# Altium footprint library shared_lib.PcbLib: 37 footprints (part 2 of 3)
Each footprint in its own frame and in the unit in brackets; x right, y up, seen from the top. Pads: shape width x height; smd on the part's side, far side on the other; paste and mask are expansions set on the pad; w line width, h text height; cw(c..) or ccw(c..) is an arc to the next point about the centre after c.
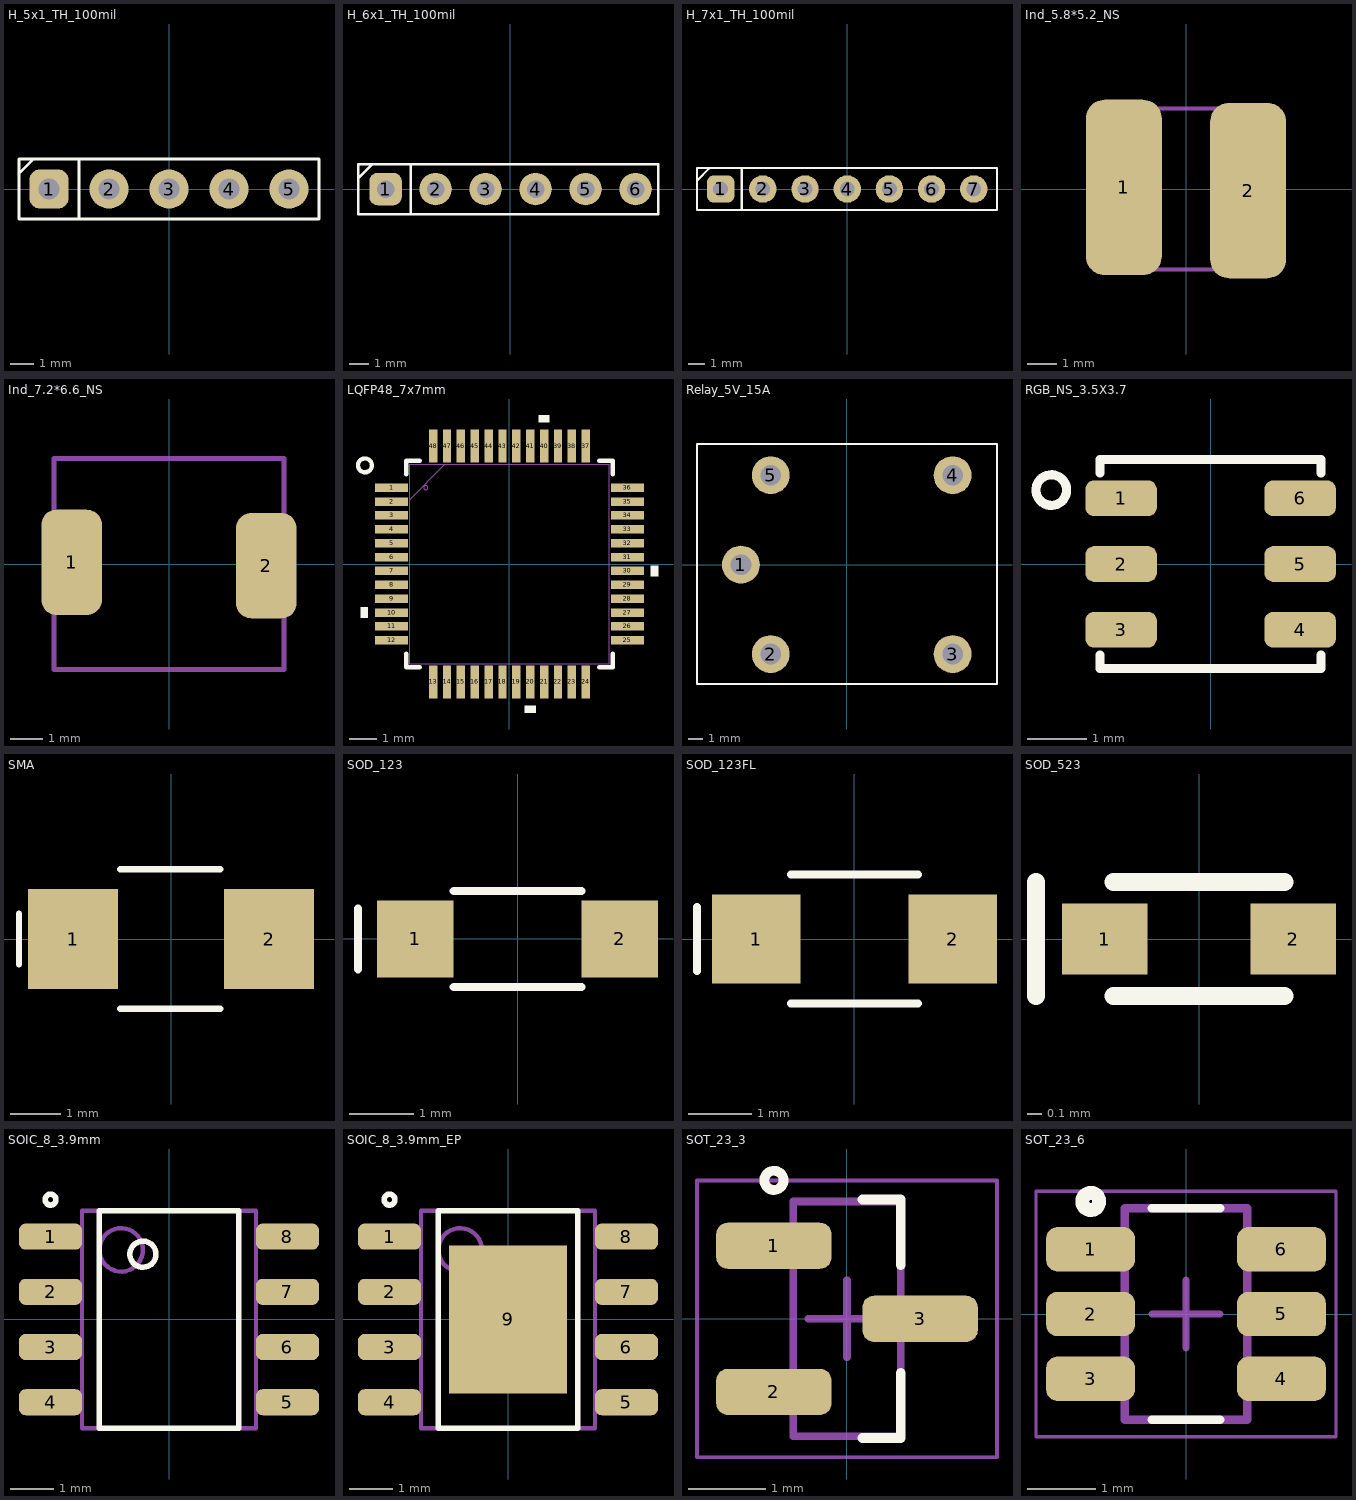
[diagram p1: the footprints below, top view; thin cyan lines are the x and y axes]

## H_5x1_TH_100mil [mil]
pads (5):
  rrect50% 65x65 hole 35: 1(-200,0)
  round 65 hole 35: 2(-100,0) 3(0,0) 4(100,0) 5(200,0)
Top Overlay:
  lines w5: -250.01,25.86 -225.87,50 ; -150,-50 -150,50 ; -250.01,-50 -250.01,50 249.99,50 249.99,-50 -250.01,-50
3D body "CircuitWorks-HEADER 2_54 VERTICAL 5X.STEP": height 335.15, standoff -97.93, extent -250.01,-49.21 249.99,49.21

## H_6x1_TH_100mil [mil]
pads (6):
  rrect50% 65x65 hole 35: 1(-250,0)
  round 65 hole 35: 2(-150,0) 3(-50,0) 4(50,0) 5(150,0) 6(250,0)
Top Overlay:
  lines w5: -305,20.87 -275.87,50 ; -200,-50 -200,50 ; -305,-50 -305,50 295,50 295,-50 -305,-50

## H_7x1_TH_100mil [mil]
pads (7):
  rrect50% 65x65 hole 35: 1(-300,0)
  round 65 hole 35: 2(-200,0) 3(-100,0) 4(0,0) 5(100,0) 6(200,0) 7(300,0)
Top Overlay:
  lines w5: -356,19.68 -326.87,48.82 ; -250,-50 -250,50 ; -356,-50 -356,50 355,50 355,-50 -356,-50

## Ind_5.8*5.2_NS [mm]
pads (2):
  rrect50% 2.6x6 smd: 1(-2.125,0.053) 2(2.125,-0.053)
Mechanical 1:
  lines w0.152: -3,-2.75 -3,2.75 3,2.75 3,-2.75 -3,-2.75
3D body: height 4.5, standoff 0, extent -3,-2.75 3,2.75

## Ind_7.2*6.6_NS [mm]
pads (2):
  rrect50% 1.9x3.3 smd: 1(-3.05,0.053) 2(3.05,-0.053)
Mechanical 1:
  lines w0.152: -3.6,-3.3 3.6,-3.3 3.6,3.3 -3.6,3.3 -3.6,-3.3
3D body: height 3, standoff 0, extent -3.6,-3.3 3.6,3.3

## LQFP48_7x7mm [mm]
pads (48):
  rect 1.194x0.305 smd paste+0 mask+0.046: 1(-4.25,2.75) 2(-4.25,2.25) 3(-4.25,1.75) 4(-4.25,1.25) 5(-4.25,0.75) 6(-4.25,0.25) 7(-4.25,-0.25) 8(-4.25,-0.75) 9(-4.25,-1.25) 10(-4.25,-1.75) 11(-4.25,-2.25) 12(-4.25,-2.75) 25(4.25,-2.75) 26(4.25,-2.25) 27(4.25,-1.75) 28(4.25,-1.25) 29(4.25,-0.75) 30(4.25,-0.25) 31(4.25,0.25) 32(4.25,0.75) 33(4.25,1.25) 34(4.25,1.75) 35(4.25,2.25) 36(4.25,2.75)
  rect 0.305x1.194 smd paste+0 mask+0.046: 13(-2.75,-4.25) 14(-2.25,-4.25) 15(-1.75,-4.25) 16(-1.25,-4.25) 17(-0.75,-4.25) 18(-0.25,-4.25) 19(0.25,-4.25) 20(0.75,-4.25) 21(1.25,-4.25) 22(1.75,-4.25) 23(2.25,-4.25) 24(2.75,-4.25) 37(2.75,4.25) 38(2.25,4.25) 39(1.75,4.25) 40(1.25,4.25) 41(0.75,4.25) 42(0.25,4.25) 43(-0.25,4.25) 44(-0.75,4.25) 45(-1.25,4.25) 46(-1.75,4.25) 47(-2.25,4.25) 48(-2.75,4.25)
Top Overlay:
  circle w0.152: c-5.207,3.556 r0.251
  region: 0.941,-5.101 0.56,-5.101 0.56,-5.355 0.941,-5.355
  region: 1.441,5.101 1.06,5.101 1.06,5.355 1.441,5.355
  region: 5.101,-0.059 5.355,-0.059 5.355,-0.44 5.101,-0.44
  region: -5.101,-1.559 -5.355,-1.559 -5.355,-1.94 -5.101,-1.94
  lines w0.152: -3.721,-3.235 -3.721,-3.721 -3.235,-3.721 ; -3.721,3.235 -3.721,3.721 -3.235,3.721 ; 3.235,-3.721 3.721,-3.721 3.721,-3.235 ; 3.235,3.721 3.721,3.721 3.721,3.235
Mechanical 13:
  circle w0: c-3.018,2.75 r0.076
  lines w0.025: -3.594,2.324 -2.324,3.594 ; -3.594,-3.594 -3.594,3.594 3.594,3.594 3.594,-3.594 -3.594,-3.594
3D body "LQFP48-7x7mm.step": height 1.6, standoff 0, extent -4.497,-4.497 4.497,4.497

## Relay_5V_15A [mm]
pads (5):
  round 2.54 hole 1.397: 1(-7.1,0) 2(-5.1,-6) 3(7.1,-6) 4(7.1,6) 5(-5.1,6)
Top Overlay:
  lines w0.127: -10.045,-8.007 -10.045,8.097 10.072,8.097 10.072,-8.007 -10.045,-8.007
3D body "User Library-RELAY  12MMx12MM SQUARE.STEP": height 15.02, standoff -1.98, extent -10.102,-7.999 9.898,8.001

## RGB_NS_3.5X3.7 [mm]
pads (6):
  rrect50% 1.2x0.6 smd: 1(-1.5,1.1) 2(-1.5,0) 3(-1.5,-1.1) 4(1.5,-1.1) 5(1.5,0) 6(1.5,1.1)
Top Overlay:
  circle w0.152: c-2.669,1.238 r0.257
  lines w0.152: -1.85,-1.524 -1.85,-1.75 1.85,-1.75 1.85,-1.524 ; -1.85,1.524 -1.85,1.75 1.85,1.75 1.85,1.524
3D body: height 1, standoff 0, extent -1.849,-1.744 1.849,1.751

## SMA [mm]
pads (2):
  rect 1.8x2 smd: 1(-1.965,0) 2(1.965,0)
Top Overlay:
  lines w0.127: -3.048,-0.508 -3.048,0.508 ; -1.016,-1.397 0.984,-1.397 ; -1.016,1.397 0.984,1.397
3D body "SMASeries_LTF.step": height 2.34, standoff 0, extent -2.642,-1.397 2.642,1.397

## SOD_123 [mm]
pads (2):
  rect 1.2x1.2 smd: 1(-1.6,0) 2(1.6,0)
Top Overlay:
  lines w0.127: -2.5,-0.475 -2.5,0.475 ; -1,-0.75 1,-0.75 ; -1,0.749 1,0.749
3D body "SOD123.step": height 1.28, standoff 0.01, extent -1.926,-0.8 1.774,0.8

## SOD_123FL [mm]
pads (2):
  rect 1.4x1.4 smd: 1(-1.55,0) 2(1.55,0)
Top Overlay:
  lines w0.127: -2.486,-0.508 -2.486,0.508 ; -1,-1.016 1,-1.016 ; -1,1.016 1,1.016
3D body "SOD-123F_LTF.step": height 1.09, standoff 0, extent -1.956,-1.003 1.956,1.003

## SOD_523 [mm]
pads (2):
  rect 0.6x0.5 smd: 1(-0.66,0) 2(0.66,0)
Top Overlay:
  lines w0.127: -1.143,-0.4 -1.143,0.4 ; -0.6,-0.4 0.6,-0.4 ; -0.6,0.4 0.6,0.4
3D body: height 0.6, standoff 0, extent -0.6,-0.4 0.6,0.4

## SOIC_8_3.9mm [mm]
pads (8):
  rrect50% 1.45x0.6 smd: 1(-2.725,1.905) 2(-2.725,0.635) 3(-2.725,-0.635) 4(-2.725,-1.905) 5(2.725,-1.905) 6(2.725,-0.635) 7(2.725,0.635) 8(2.725,1.905)
Top Overlay:
  circle w0.127: c-0.6,1.5 r0.3
  circle w0.127: c-2.725,2.755 r0.125
  lines w0.127: -1.6,-2.5 1.6,-2.5 1.6,2.5 -1.6,2.5 -1.6,-2.5
Mechanical 1:
  circle w0.1: c-1.1,1.6 r0.5
  lines w0.1: -2,-2.5 -2,2.5 2,2.5 2,-2.5 -2,-2.5
3D body "SOIC127P600X173-8N.step": height 1.73, standoff 0, extent -3.01,-2.5 3.01,2.5

## SOIC_8_3.9mm_EP [mm]
pads (9):
  rrect50% 1.45x0.6 smd: 1(-2.725,1.905) 2(-2.725,0.635) 3(-2.725,-0.635) 4(-2.725,-1.905) 5(2.725,-1.905) 6(2.725,-0.635) 7(2.725,0.635) 8(2.725,1.905)
  rect 2.71x3.4 smd: 9(0,0)
Top Overlay:
  circle w0.127: c-2.725,2.755 r0.125
  lines w0.127: -1.6,-2.5 -1.6,2.5 1.6,2.5 1.6,-2.5 -1.6,-2.5
Mechanical 1:
  circle w0.1: c-1.1,1.6 r0.5
  lines w0.1: -2,-2.5 2,-2.5 2,2.5 -2,2.5 -2,-2.5
3D body "step_temp.STEP": height 1.7, standoff 0, extent -3,-2.45 3,2.45

## SOT_23_3 [mm]
pads (3):
  rrect50% 1.5x0.6 smd: 1(-0.95,0.95) 2(-0.95,-0.95) 3(0.95,0)
Top Overlay:
  circle w0.127: c-0.95,1.8 r0.125
  lines w0.127: 0.2,-1.55 0.7,-1.55 0.7,-0.7 ; 0.2,1.55 0.7,1.55 0.7,0.7
Mechanical 1:
  lines w0.1: -0.7,-1.525 0.7,-1.525 0.7,1.525 -0.7,1.525 -0.7,-1.525
Mechanical 15:
  lines w0.05: -1.95,-1.8 -1.95,1.8 1.95,1.8 1.95,-1.8 -1.95,-1.8
  lines w0.1: -0.5,0 0.5,0 ; 0,-0.5 0,0.5
3D body: height 1.12, standoff 0.01, extent -0.7,-1.525 0.7,1.525

## SOT_23_6 [mm]
height 1.45
pads (6):
  rrect50% 1.3x0.65 smd: 1(-1.4,0.95) 2(-1.4,0) 3(-1.4,-0.95) 4(1.4,-0.95) 5(1.4,0) 6(1.4,0.95)
Top Overlay:
  circle w0.203: c-1.397,1.651 r0.125
  lines w0.127: -0.5,-1.55 0.5,-1.55 ; -0.5,1.55 0.5,1.55
Mechanical 1:
  lines w0.127: -0.9,-1.55 -0.9,1.55 0.9,1.55 0.9,-1.55 -0.9,-1.55
Mechanical 15:
  lines w0.05: -2.2,-1.8 2.2,-1.8 2.2,1.8 -2.2,1.8 -2.2,-1.8
  lines w0.1: -0.5,0 0.5,0 ; 0,-0.5 0,0.5
3D body "SOT23-6-2.step": height 1.45, standoff 0, extent -1.501,-1.45 1.299,1.45